# Altium schematic symbol library EMITTER_PIN.SchLib: 1 symbol
Pins are listed as number, name and electrical type; pins without a type are passive.

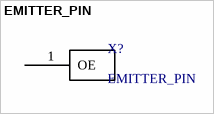
[diagram p0: symbol EMITTER_PIN]

## EMITTER_PIN
designator X?
Open emitter pin test
pins: 1 OE (oe)